# Altium footprint library ModulebitV0_41.PcbLib: 31 footprints (part 2 of 2)
Each footprint in its own frame and in the unit in brackets; x right, y up, seen from the top. Pads: shape width x height; smd on the part's side, far side on the other; paste and mask are expansions set on the pad; w line width, h text height; cw(c..) or ccw(c..) is an arc to the next point about the centre after c.
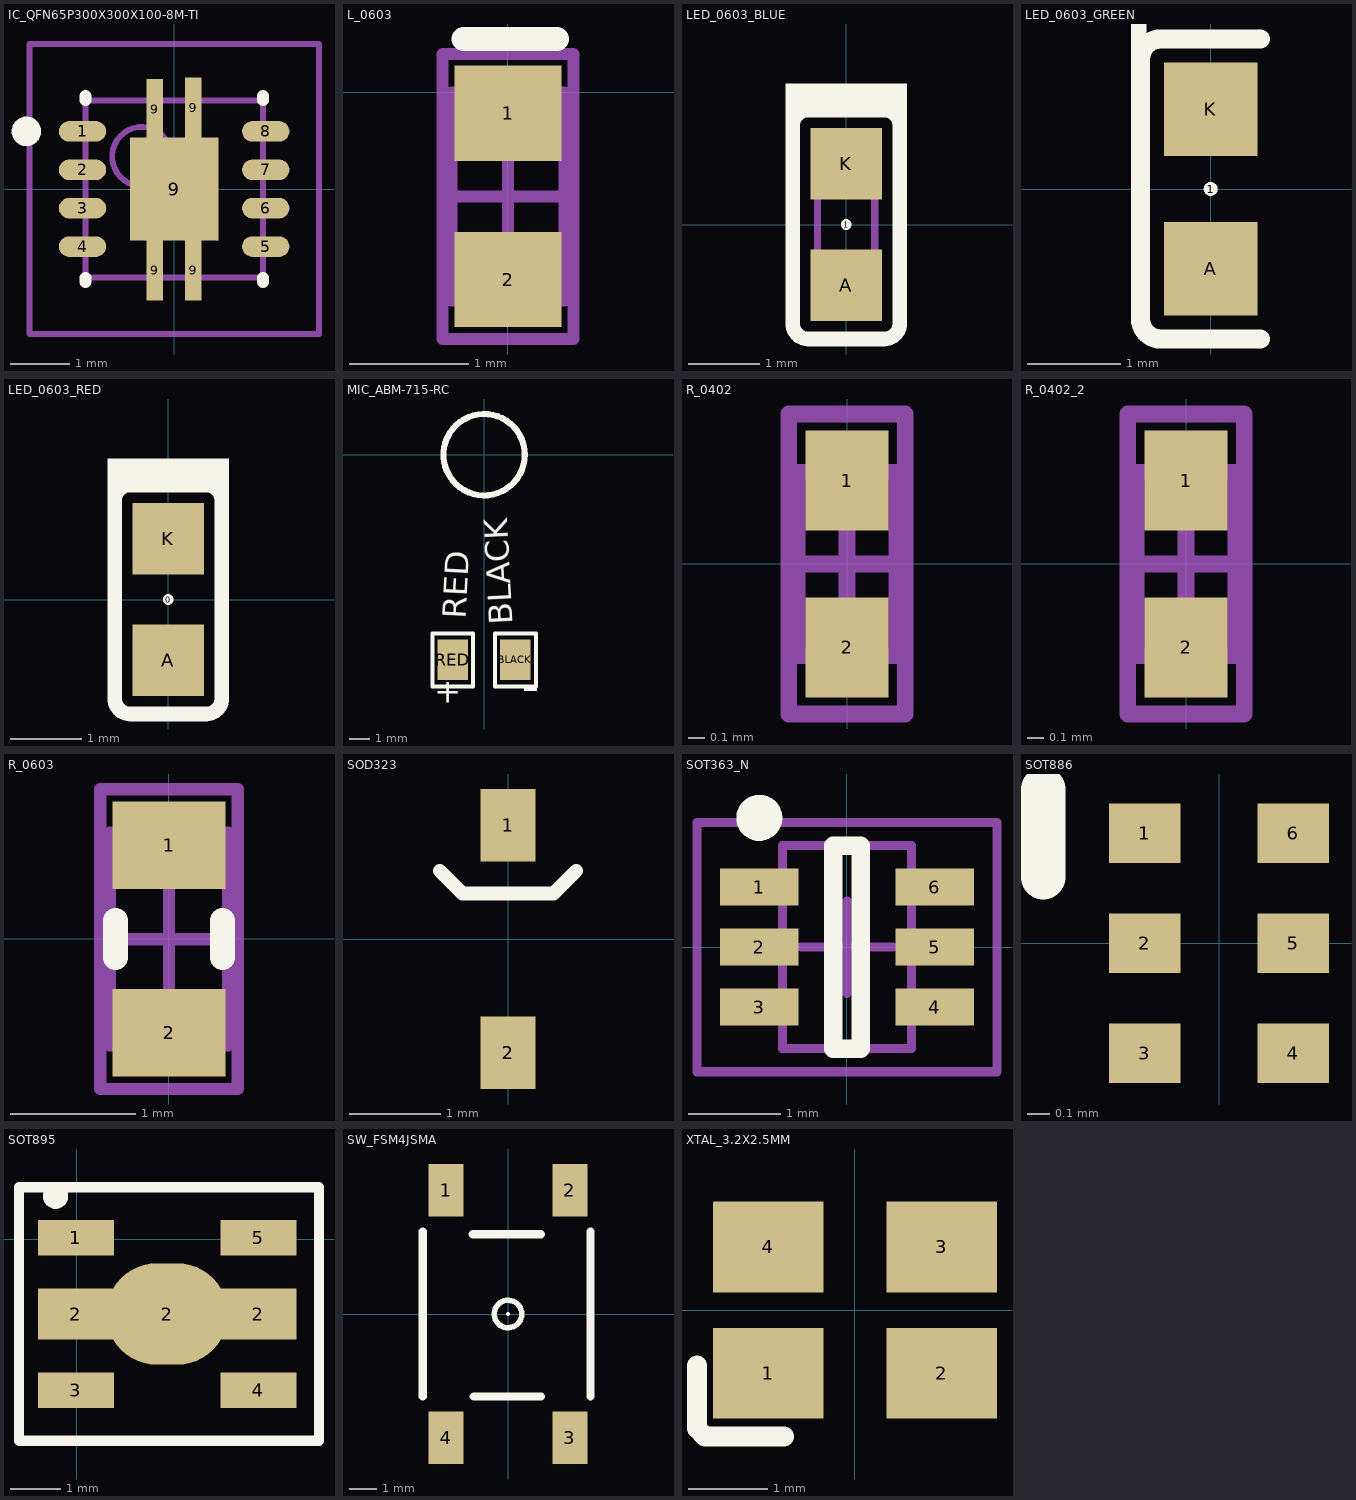
[diagram p1: the footprints below, top view; thin cyan lines are the x and y axes]

## IC_QFN65P300X300X100-8M-TI [mm]
pads (13):
  oval 0.8x0.35 smd: 1(-1.55,0.975) 2(-1.55,0.325) 3(-1.55,-0.325) 4(-1.55,-0.975) 5(1.55,-0.975) 6(1.55,-0.325) 7(1.55,0.325) 8(1.55,0.975)
  rect 0.28x1.025 smd: 9(-0.325,-1.372) 9(-0.325,1.346) 9(0.325,-1.372) 9(0.325,1.372)
  rect 1.5x1.75 smd: 9(0,0)
Top Overlay:
  circle w0.25: c-2.5,0.975 r0.125
  lines w0.2: -1.5,-1.575 -1.5,-1.5 ; -1.5,1.5 -1.5,1.575 ; 1.5,-1.575 1.5,-1.5 ; 1.5,1.5 1.5,1.575
Mechanical 13:
  circle w0.1: c-0.55,0.55 r0.5
  lines w0.1: -1.5,-1.5 1.5,-1.5 1.5,1.5 -1.5,1.5 -1.5,-1.5
Mechanical 15:
  lines w0.1: -0.5,0 0.5,0 ; 0,-0.5 0,0.5 ; -2.45,-2.45 2.45,-2.45 2.45,2.45 -2.45,2.45 -2.45,-2.45
3D body: height 1, standoff 0.01, extent -1.5,-1.5 1.5,1.5

## L_0603 [mm]
pads (2):
  rect 0.9x0.8 smd: 1(0,-0.175) 2(0,-1.575)
Top Overlay:
  lines w0.203: -0.375,0.45 0.412,0.45
Mechanical 13:
  lines w0.1: -0.475,-1.75 -0.475,0 0.475,0 0.475,-1.75 -0.475,-1.75
Mechanical 15:
  lines w0.1: -0.475,-0.875 0.475,-0.875 ; 0,-1.35 0,-0.4 ; -0.55,-2.075 -0.55,0.325 0.55,0.325 0.55,-2.075 -0.55,-2.075
3D body "Coilcraft-0603LS.step": height 1.11, standoff -0.01, extent -0.61,-1.815 0.559,-0.013

## LED_0603_BLUE [mm]
pads (3):
  round 0.152 on Top Overlay: 1(0,0)
  rect 1x1 smd paste+0 mask+0: A(0,-0.85) K(0,0.85)
Top Overlay:
  region: 0.665,1.782 0.665,1.132 0.851,1.132 0.851,1.782
  region: -0.851,1.973 -0.851,1.516 0.851,1.516 0.851,1.973
  region: -0.851,1.782 -0.851,1.198 -0.686,1.198 -0.686,1.782
  lines w0.203: -0.749,-1.386 ccw(c-0.533,-1.386) -0.533,-1.602 0.533,-1.602 ccw(c0.533,-1.386) 0.749,-1.386 0.749,1.386 ccw(c0.533,1.386) 0.533,1.602 -0.533,1.602 ccw(c-0.533,1.386) -0.749,1.386 -0.749,-1.386
Mechanical 7:
  lines w0.1: -0.4,-0.8 -0.4,0.8 0.4,0.8 0.4,-0.8 -0.4,-0.8
  text ".Comment" at -0.9,1.6 h0.4
  text ".Designator" at 0.6,1.6 h0.4
3D body: height 0.46, standoff 0, extent -0.464,-0.493 0.402,0.301
3D body: height 0.38, standoff 0, extent -0.533,-0.668 0.533,0.502
3D body: height 0.38, standoff 0, extent -0.535,0.5 0.535,0.925
3D body: height 0.38, standoff 0, extent -0.532,-1.089 0.532,-0.664

## LED_0603_GREEN [mm]
pads (3):
  round 0.152 on Top Overlay: 1(0,0)
  rect 1x1 smd paste+0 mask+0: A(0,-0.85) K(0,0.85)
Top Overlay:
  region: -0.851,1.782 -0.851,1.198 -0.686,1.198 -0.686,1.782
  lines w0.203: 0.533,-1.602 -0.533,-1.602 cw(c-0.533,-1.386) -0.749,-1.386 -0.749,1.386 cw(c-0.533,1.386) -0.533,1.602 0.533,1.602
Mechanical 7:
  text ".Designator" at 0.6,1.6 h0.4
  text ".Comment" at -0.9,1.6 h0.4
3D body "User Library-led0603_GRE.step": height 1.1, standoff 0, extent -0.4,-0.81 0.4,0.81

## LED_0603_RED [mm]
pads (3):
  round 0.152 on Top Overlay: 0(0,0)
  rect 1x1 smd paste+0 mask+0: A(0,-0.85) K(0,0.85)
Top Overlay:
  region: 0.665,1.782 0.665,1.132 0.851,1.132 0.851,1.782
  region: -0.851,1.973 -0.851,1.516 0.851,1.516 0.851,1.973
  region: -0.851,1.782 -0.851,1.198 -0.686,1.198 -0.686,1.782
  lines w0.203: -0.749,-1.386 ccw(c-0.533,-1.386) -0.533,-1.602 0.533,-1.602 ccw(c0.533,-1.386) 0.749,-1.386 0.749,1.386 ccw(c0.533,1.386) 0.533,1.602 -0.533,1.602 ccw(c-0.533,1.386) -0.749,1.386 -0.749,-1.386
Mechanical 7:
  text ".Designator" at 0.6,1.6 h0.4
  text ".Comment" at -0.9,1.6 h0.4
3D body "User Library-led0603_RED.step": height 1.1, standoff 0, extent -0.425,-0.836 0.375,0.785

## MIC_ABM-715-RC [mm]
pads (2):
  rect 1.5x2 smd: BLACK(1.54,-10.08) RED(-1.54,-10.08)
Top Overlay:
  circle w0.305: c0,0 r2
  lines w0.2: -2.54,-11.38 -2.54,-8.78 -0.54,-8.78 -0.54,-11.38 -2.54,-11.38 ; 0.54,-11.38 0.54,-8.78 2.54,-8.78 2.54,-11.38 0.54,-11.38
  text "RED" at -0.5,-8.1 h2
  text "BLACK" at 1.8,-8.3 h2
  text "+" at -2.455,-12.589 h2
  text "-" at 1.837,-12.741 h3.05
3D body: height 2.5, standoff 0.5, extent -2,-2 2,2
3D body: height 2.21, standoff 2.01, extent -1.8,-1.8 1.8,1.8
3D body: height 0.46, standoff 0.06, extent 0.83,-9.884 1.699,-0.876
3D body: height 0.46, standoff 0.06, extent -1.569,-9.898 -0.7,-0.89

## R_0402 [mm]
pads (2):
  rect 0.5x0.6 smd: 1(0,0.5) 2(0,-0.5)
Mechanical 13:
  lines w0.1: -0.3,-0.55 0.3,-0.55 0.3,0.55 -0.3,0.55 -0.3,-0.55
Mechanical 15:
  lines w0.1: -0.3,0 0.3,0 ; 0,-0.3 0,0.3 ; -0.35,-0.9 0.35,-0.9 0.35,0.9 -0.35,0.9 -0.35,-0.9
3D body "User Library-RESC1005X04N.step": height 0.35, standoff 0, extent -0.25,-0.475 0.25,0.525

## R_0402_2 [mm]
pads (2):
  rect 0.5x0.6 smd: 1(0,0.5) 2(0,-0.5)
Mechanical 13:
  lines w0.1: -0.3,-0.55 0.3,-0.55 0.3,0.55 -0.3,0.55 -0.3,-0.55
Mechanical 15:
  lines w0.1: -0.3,0 0.3,0 ; 0,-0.3 0,0.3 ; -0.35,-0.9 0.35,-0.9 0.35,0.9 -0.35,0.9 -0.35,-0.9
3D body "User Library-RESC1005X04N.step": height 0.35, standoff 0, extent -0.25,-0.475 0.25,0.525

## R_0603 [mm]
pads (2):
  rect 0.9x0.7 smd: 1(0,0.75) 2(0,-0.75)
Top Overlay:
  lines w0.2: -0.426,-0.149 -0.426,0.149 ; 0.426,-0.149 0.426,0.149
Mechanical 13:
  lines w0.1: -0.475,-0.85 -0.475,0.85 0.475,0.85 0.475,-0.85 -0.475,-0.85
Mechanical 15:
  lines w0.1: -0.475,0 0.475,0 ; 0,-0.475 0,0.475 ; -0.55,-1.2 -0.55,1.2 0.55,1.2 0.55,-1.2 -0.55,-1.2
3D body "User Library-RESC1608X05N.step": height 0.45, standoff 0, extent -0.424,-0.75 0.426,0.8

## SOD323 [mm]
pads (2):
  rect 0.6x0.8 smd: 1(0,1.25) 2(0,-1.25)
Top Overlay:
  lines w0.152: -0.75,0.75 -0.5,0.5 0.5,0.5 0.75,0.75
3D body "User Library-SOD323-1.step": height 1.1, standoff 0, extent -0.675,-1.3 0.675,1.3

## SOT363_N [mm]
pads (6):
  rect 0.85x0.4 smd: 1(-0.95,0.65) 2(-0.95,0) 3(-0.95,-0.65) 4(0.95,-0.65) 5(0.95,0) 6(0.95,0.65)
Top Overlay:
  circle w0.25: c-0.95,1.4 r0.125
  lines w0.2: -0.15,-1.1 0.15,-1.1 0.15,1.1 -0.15,1.1 -0.15,-1.1
Mechanical 13:
  lines w0.1: -0.7,-1.1 -0.7,1.1 0.7,1.1 0.7,-1.1 -0.7,-1.1
Mechanical 15:
  lines w0.1: -0.5,0 0.5,0 ; 0,-0.5 0,0.5 ; -1.625,-1.35 -1.625,1.35 1.625,1.35 1.625,-1.35 -1.625,-1.35
3D body "User Library-SOT363-2.step": height 1.1, standoff 0, extent -1.2,-1.1 1.2,1.1

## SOT886 [mm]
pads (6):
  rect 0.325x0.27 smd: 1(-0.337,0.5) 2(-0.337,0) 3(-0.337,-0.5) 4(0.337,-0.5) 5(0.337,0) 6(0.337,0.5)
Top Overlay:
  lines w0.203: -0.8,0.3 -0.8,0.7
3D body "User Library-MO-252D.step": height 0.82, standoff 0, extent -0.5,-0.75 0.5,0.75

## SOT895 [mm]
pads (7):
  rect 1.5x0.7 smd: 1(-0.022,0.027) 3(-0.022,-2.973) 4(3.578,-2.973) 5(3.578,0.027)
  rect 1.5x1 smd: 2(-0.022,-1.473) 2(3.578,-1.473)
  oval 2.4x2 smd: 2(1.778,-1.473)
Top Overlay:
  circle w0.25: c-0.422,0.852 r0.125
  lines w0.2: -1.143,-3.973 4.775,-3.973 4.775,1.027 -1.143,1.027 -1.143,-3.973
3D body "User Library-SOT89-5-1.step": height 1.5, standoff 0, extent -0.4,-3.75 3.9,0.75

## SW_FSM4JSMA [mm]
pads (5):
  rect 1.27x1.905 smd: 1(-2.25,4.5) 2(2.25,4.5) 3(2.25,-4.5) 4(-2.25,-4.5)
  round 0.152 on Top Overlay: 3(0,0)
Top Overlay:
  circle w0.2: c0,0 r0.5
  lines w0.305: -3.1,-3 -3.1,3 ; -1.284,2.9 1.2,2.9 ; -1.244,-3 1.2,-3 ; 3,-3 3,3
3D body "c-4-1437565-1-s-3d.stp": height 5.1, standoff 0.02, extent -3,-5 3,5

## XTAL_3.2X2.5MM [mm]
pads (4):
  rect 1.4x1.15 smd: 1(-1.1,-0.8) 2(1.1,-0.8) 3(1.1,0.8) 4(-1.1,0.8)
Top Overlay:
  lines w0.254: -2,-0.7 -2,-1.5 -1.9,-1.6 -0.9,-1.6
3D body: height 0.6, standoff 0, extent -1.6,-1.2 1.6,1.2
3D body: height 0.7, standoff 0.6, extent -1.5,-1.1 1.5,1.1